# EAGLE library part 687118144921 (library Wuerth_Elektronik_eiCan_03_ZIF_Connectors_&_Flat_Flexible_Cable)
WR-FPC 0.5mm SMT ZIF Horizontal Top Contact Low Profile 1.2mm Height, 18 Pins
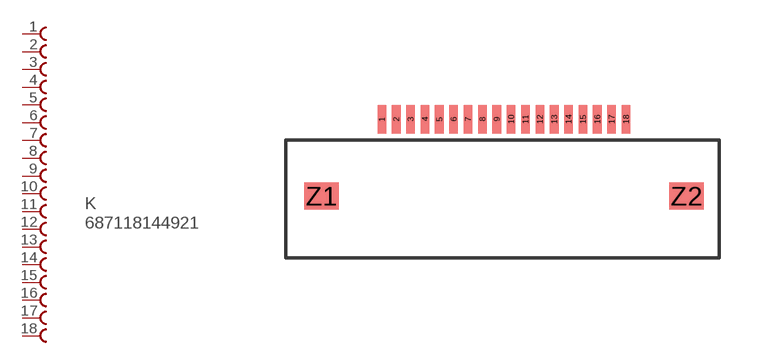
[diagram p96: symbol with the pads of 687118144921; footprint 687118144921]

Designator prefix K

## 687118144921  [687118144921]
1  1  pas
2  2  pas
3  3  pas
4  4  pas
5  5  pas
6  6  pas
7  7  pas
8  8  pas
9  9  pas
10  10  pas
11  11  pas
12  12  pas
13  13  pas
14  14  pas
15  15  pas
16  16  pas
17  17  pas
18  18  pas

## Footprint 687118144921 (pad centres in mm)
WR-FPC 0.5mm SMT ZIF Horizontal Top Contact Low Profile 1.2mm Height, 18 Pins
smd 0.3 x 1: 1 -4.25,4.825; 2 -3.75,4.825; 3 -3.25,4.825; 4 -2.75,4.825; 5 -2.25,4.825; 6 -1.75,4.825; 7 -1.25,4.825; 8 -0.75,4.825; 9 -0.25,4.825; 10 0.25,4.825; 11 0.75,4.825; 12 1.25,4.825; 13 1.75,4.825; 14 2.25,4.825; 15 2.75,4.825; 16 3.25,4.825; 17 3.75,4.825; 18 4.25,4.825
smd 1.2 x 0.95: Z1 -6.35,2.15; Z2 6.35,2.15